# Altium integrated library ST Microcontroller 8-Bit.IntLib: 1326 symbols (part 45 of 45)
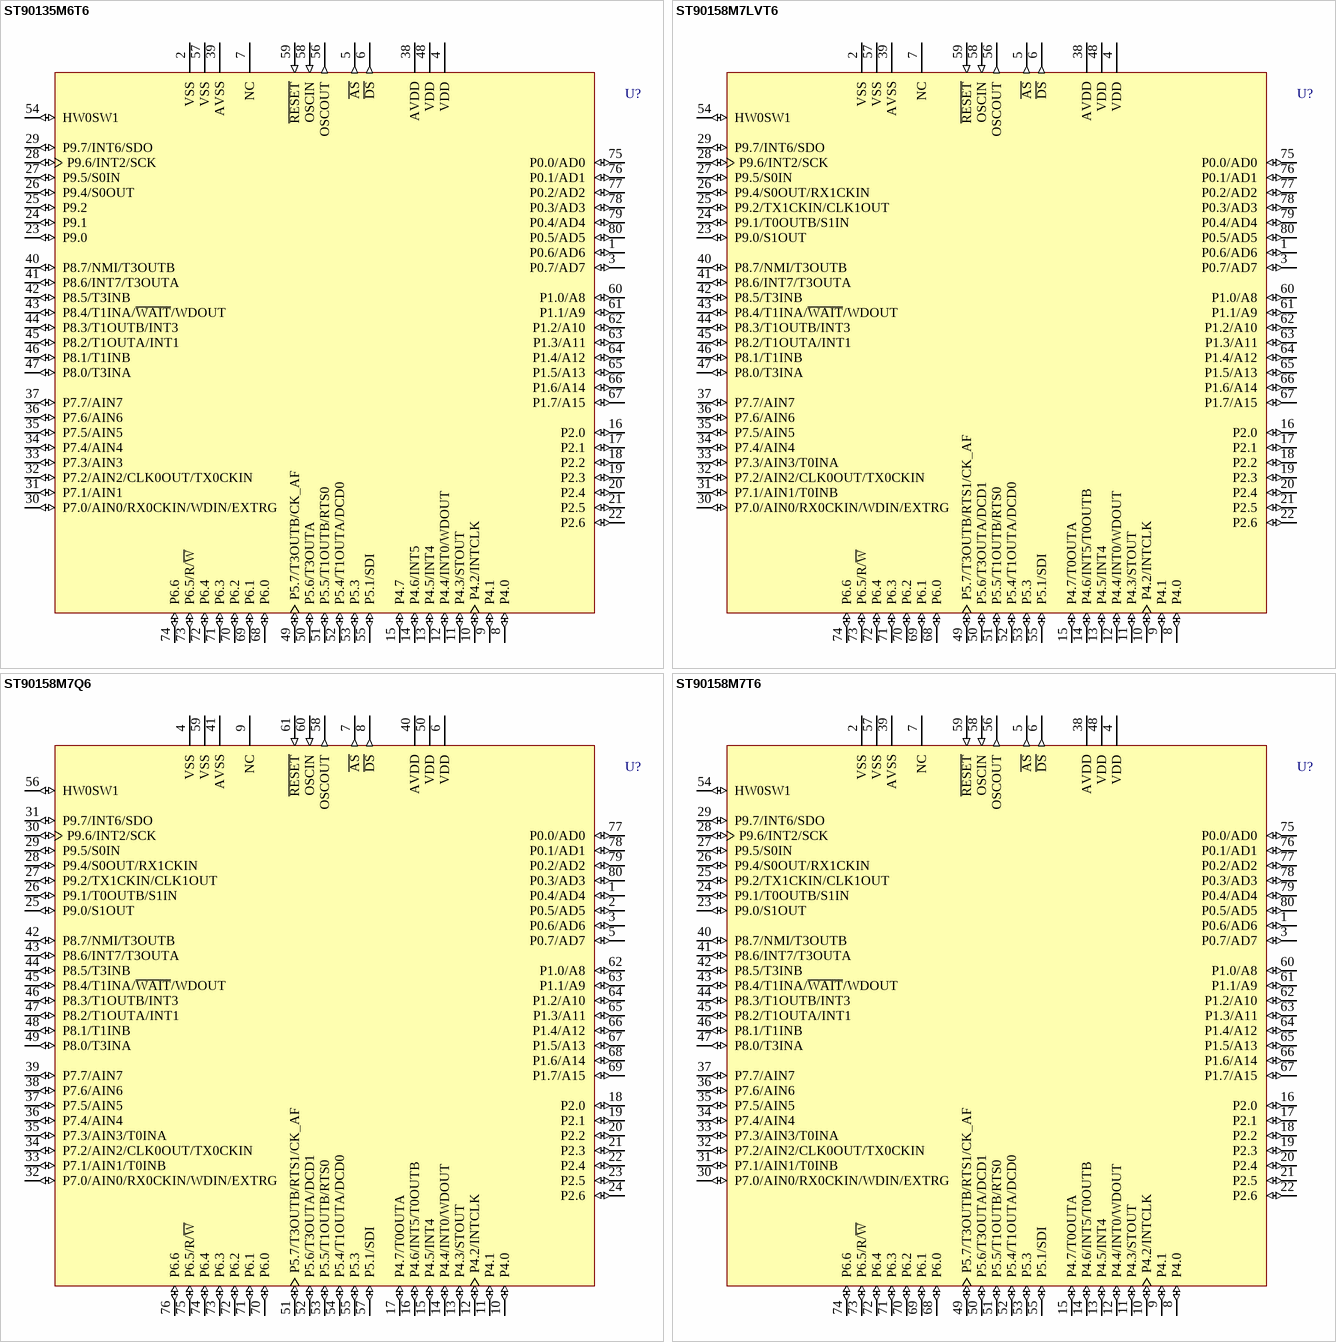
[diagram p211: symbols ST90135M6T6 to ST90158M7T6]

## ST90158M7LVT6
designator U?
8/16-Bit MCU with 48k ROM, 1.5k RAM, ADC, Timers, SPI and Two SCI , 80-Pin TQFP, Low Voltage; Published: 26-May-2004; LatestRevisionDate: 13-Apr-2006; LatestRevisionNote: IPC-7351 Footprint Added.; DatasheetVersion: rev3.3, Jan-2001; PackageVersion: Jan-2001; PackageReference: TQFP80; Publisher: Altium Limited; PackageDescription: 80-Pin Thin Plastic Quad Flat Pack 0.65 mm Pitch; ComponentLink1Description: Manufacturer Link; ComponentLink1URL: http://www.st.com/
footprint TQFP80_N (Thin QFP, 80-Leads, Body 14 x 14mm, Pitch 0.65mm, IPC Medium Density)
footprint TQFP80_L (Thin QFP, 80-Leads, Body 14 x 14mm, Pitch 0.65mm, IPC High Density)
footprint TQFP80_M (Thin QFP, 80-Leads, Body 14 x 14mm, Pitch 0.65mm, IPC Low Density)
3D model ST90158-TQFP80 (80-Pin Thin Plastic Quad Flat Pack 0.65 mm Pitch)
pins: 1 P0.6/AD6 (io), 2 VSS (power), 3 P0.7/AD7 (io), 4 VDD (power), 5 ~{AS} (out), 6 ~{DS} (out), 7 NC, 8 P4.0 (io), 9 P4.1 (io), 10 P4.2/INTCLK (io), 11 P4.3/STOUT (io), 12 P4.4/INT0/WDOUT (io), 13 P4.5/INT4 (io), 14 P4.6/INT5/T0OUTB (io), 15 P4.7/T0OUTA (io), 16 P2.0 (io), 17 P2.1 (io), 18 P2.2 (io), 19 P2.3 (io), 20 P2.4 (io), 21 P2.5 (io), 22 P2.6 (io), 23 P9.0/S1OUT (io), 24 P9.1/T0OUTB/S1IN (io), 25 P9.2/TX1CKIN/CLK1OUT (io), 26 P9.4/S0OUT/RX1CKIN (io), 27 P9.5/S0IN (io), 28 P9.6/INT2/SCK (io), 29 P9.7/INT6/SDO (io), 30 P7.0/AIN0/RX0CKIN/WDIN/EXTRG (io), 31 P7.1/AIN1/T0INB (io), 32 P7.2/AIN2/CLK0OUT/TX0CKIN (io), 33 P7.3/AIN3/T0INA (io), 34 P7.4/AIN4 (io), 35 P7.5/AIN5 (io), 36 P7.6/AIN6 (io), 37 P7.7/AIN7 (io), 38 AVDD (power), 39 AVSS (power), 40 P8.7/NMI/T3OUTB (io), 41 P8.6/INT7/T3OUTA (io), 42 P8.5/T3INB (io), 43 P8.4/T1INA/~{WAIT}/WDOUT (io), 44 P8.3/T1OUTB/INT3 (io), 45 P8.2/T1OUTA/INT1 (io), 46 P8.1/T1INB (io), 47 P8.0/T3INA (io), 48 VDD (power), 49 P5.7/T3OUTB/RTS1/CK_AF (io), 50 P5.6/T3OUTA/DCD1 (io), 51 P5.5/T1OUTB/RTS0 (io), 52 P5.4/T1OUTA/DCD0 (io), 53 P5.3 (io), 54 HW0SW1 (io), 55 P5.1/SDI (io), 56 OSCOUT (out), 57 VSS (power), 58 OSCIN (in), 59 ~{RESET} (in), 60 P1.0/A8 (io), 61 P1.1/A9 (io), 62 P1.2/A10 (io), 63 P1.3/A11 (io), 64 P1.4/A12 (io), 65 P1.5/A13 (io), 66 P1.6/A14 (io), 67 P1.7/A15 (io), 68 P6.0 (io), 69 P6.1 (io), 70 P6.2 (io), 71 P6.3 (io), 72 P6.4 (io), 73 P6.5/R/~{W} (io), 74 P6.6 (io), 75 P0.0/AD0 (io), 76 P0.1/AD1 (io), 77 P0.2/AD2 (io), 78 P0.3/AD3 (io), 79 P0.4/AD4 (io), 80 P0.5/AD5 (io)

## ST90158M7Q6
designator U?
8/16-Bit MCU with 48k ROM, 1.5k RAM, ADC, Timers, SPI and Two SCI , 80-Pin PQFP; Published: 26-May-2004; LatestRevisionDate: 13-Apr-2006; LatestRevisionNote: IPC-7351 Footprint Added.; DatasheetVersion: rev3.3, Jan-2001; PackageVersion: Jul-2001; PackageReference: PQFP80; Publisher: Altium Limited; PackageDescription: 80-Pin Plastic Quad Flat Pack Rectangular 0.8 mm Pitch; ComponentLink1Description: Manufacturer Link; ComponentLink1URL: http://www.st.com/
footprint PQFP80_N (QFP, 80-Leads, Body 20x14mm, Pitch 0.8mm, IPC Medium Density)
footprint PQFP80_L (QFP, 80-Leads, Body 20x14mm, Pitch 0.8mm, IPC High Density)
footprint PQFP80_M (QFP, 80-Leads, Body 20x14mm, Pitch 0.8mm, IPC Low Density)
3D model ST90158-PQFP80 (80-Pin Plastic Quad Flat Pack Rectangular 0.8 mm Pitch)
pins: 1 P0.4/AD4 (io), 2 P0.5/AD5 (io), 3 P0.6/AD6 (io), 4 VSS (power), 5 P0.7/AD7 (io), 6 VDD (power), 7 ~{AS} (out), 8 ~{DS} (out), 9 NC, 10 P4.0 (io), 11 P4.1 (io), 12 P4.2/INTCLK (io), 13 P4.3/STOUT (io), 14 P4.4/INT0/WDOUT (io), 15 P4.5/INT4 (io), 16 P4.6/INT5/T0OUTB (io), 17 P4.7/T0OUTA (io), 18 P2.0 (io), 19 P2.1 (io), 20 P2.2 (io), 21 P2.3 (io), 22 P2.4 (io), 23 P2.5 (io), 24 P2.6 (io), 25 P9.0/S1OUT (io), 26 P9.1/T0OUTB/S1IN (io), 27 P9.2/TX1CKIN/CLK1OUT (io), 28 P9.4/S0OUT/RX1CKIN (io), 29 P9.5/S0IN (io), 30 P9.6/INT2/SCK (io), 31 P9.7/INT6/SDO (io), 32 P7.0/AIN0/RX0CKIN/WDIN/EXTRG (io), 33 P7.1/AIN1/T0INB (io), 34 P7.2/AIN2/CLK0OUT/TX0CKIN (io), 35 P7.3/AIN3/T0INA (io), 36 P7.4/AIN4 (io), 37 P7.5/AIN5 (io), 38 P7.6/AIN6 (io), 39 P7.7/AIN7 (io), 40 AVDD (power), 41 AVSS (power), 42 P8.7/NMI/T3OUTB (io), 43 P8.6/INT7/T3OUTA (io), 44 P8.5/T3INB (io), 45 P8.4/T1INA/~{WAIT}/WDOUT (io), 46 P8.3/T1OUTB/INT3 (io), 47 P8.2/T1OUTA/INT1 (io), 48 P8.1/T1INB (io), 49 P8.0/T3INA (io), 50 VDD (power), 51 P5.7/T3OUTB/RTS1/CK_AF (io), 52 P5.6/T3OUTA/DCD1 (io), 53 P5.5/T1OUTB/RTS0 (io), 54 P5.4/T1OUTA/DCD0 (io), 55 P5.3 (io), 56 HW0SW1 (io), 57 P5.1/SDI (io), 58 OSCOUT (out), 59 VSS (power), 60 OSCIN (in), 61 ~{RESET} (in), 62 P1.0/A8 (io), 63 P1.1/A9 (io), 64 P1.2/A10 (io), 65 P1.3/A11 (io), 66 P1.4/A12 (io), 67 P1.5/A13 (io), 68 P1.6/A14 (io), 69 P1.7/A15 (io), 70 P6.0 (io), 71 P6.1 (io), 72 P6.2 (io), 73 P6.3 (io), 74 P6.4 (io), 75 P6.5/R/~{W} (io), 76 P6.6 (io), 77 P0.0/AD0 (io), 78 P0.1/AD1 (io), 79 P0.2/AD2 (io), 80 P0.3/AD3 (io)

## ST90158M7T6
designator U?
8/16-Bit MCU with 48k ROM, 1.5k RAM, ADC, Timers, SPI and Two SCI , 80-Pin TQFP; Published: 26-May-2004; LatestRevisionDate: 13-Apr-2006; LatestRevisionNote: IPC-7351 Footprint Added.; DatasheetVersion: rev3.3, Jan-2001; PackageVersion: Jan-2001; PackageReference: TQFP80; Publisher: Altium Limited; PackageDescription: 80-Pin Thin Plastic Quad Flat Pack 0.65 mm Pitch; ComponentLink1Description: Manufacturer Link; ComponentLink1URL: http://www.st.com/
footprint TQFP80_N (Thin QFP, 80-Leads, Body 14 x 14mm, Pitch 0.65mm, IPC Medium Density)
footprint TQFP80_L (Thin QFP, 80-Leads, Body 14 x 14mm, Pitch 0.65mm, IPC High Density)
footprint TQFP80_M (Thin QFP, 80-Leads, Body 14 x 14mm, Pitch 0.65mm, IPC Low Density)
3D model ST90158-TQFP80 (80-Pin Thin Plastic Quad Flat Pack 0.65 mm Pitch)
pins: 1 P0.6/AD6 (io), 2 VSS (power), 3 P0.7/AD7 (io), 4 VDD (power), 5 ~{AS} (out), 6 ~{DS} (out), 7 NC, 8 P4.0 (io), 9 P4.1 (io), 10 P4.2/INTCLK (io), 11 P4.3/STOUT (io), 12 P4.4/INT0/WDOUT (io), 13 P4.5/INT4 (io), 14 P4.6/INT5/T0OUTB (io), 15 P4.7/T0OUTA (io), 16 P2.0 (io), 17 P2.1 (io), 18 P2.2 (io), 19 P2.3 (io), 20 P2.4 (io), 21 P2.5 (io), 22 P2.6 (io), 23 P9.0/S1OUT (io), 24 P9.1/T0OUTB/S1IN (io), 25 P9.2/TX1CKIN/CLK1OUT (io), 26 P9.4/S0OUT/RX1CKIN (io), 27 P9.5/S0IN (io), 28 P9.6/INT2/SCK (io), 29 P9.7/INT6/SDO (io), 30 P7.0/AIN0/RX0CKIN/WDIN/EXTRG (io), 31 P7.1/AIN1/T0INB (io), 32 P7.2/AIN2/CLK0OUT/TX0CKIN (io), 33 P7.3/AIN3/T0INA (io), 34 P7.4/AIN4 (io), 35 P7.5/AIN5 (io), 36 P7.6/AIN6 (io), 37 P7.7/AIN7 (io), 38 AVDD (power), 39 AVSS (power), 40 P8.7/NMI/T3OUTB (io), 41 P8.6/INT7/T3OUTA (io), 42 P8.5/T3INB (io), 43 P8.4/T1INA/~{WAIT}/WDOUT (io), 44 P8.3/T1OUTB/INT3 (io), 45 P8.2/T1OUTA/INT1 (io), 46 P8.1/T1INB (io), 47 P8.0/T3INA (io), 48 VDD (power), 49 P5.7/T3OUTB/RTS1/CK_AF (io), 50 P5.6/T3OUTA/DCD1 (io), 51 P5.5/T1OUTB/RTS0 (io), 52 P5.4/T1OUTA/DCD0 (io), 53 P5.3 (io), 54 HW0SW1 (io), 55 P5.1/SDI (io), 56 OSCOUT (out), 57 VSS (power), 58 OSCIN (in), 59 ~{RESET} (in), 60 P1.0/A8 (io), 61 P1.1/A9 (io), 62 P1.2/A10 (io), 63 P1.3/A11 (io), 64 P1.4/A12 (io), 65 P1.5/A13 (io), 66 P1.6/A14 (io), 67 P1.7/A15 (io), 68 P6.0 (io), 69 P6.1 (io), 70 P6.2 (io), 71 P6.3 (io), 72 P6.4 (io), 73 P6.5/R/~{W} (io), 74 P6.6 (io), 75 P0.0/AD0 (io), 76 P0.1/AD1 (io), 77 P0.2/AD2 (io), 78 P0.3/AD3 (io), 79 P0.4/AD4 (io), 80 P0.5/AD5 (io)

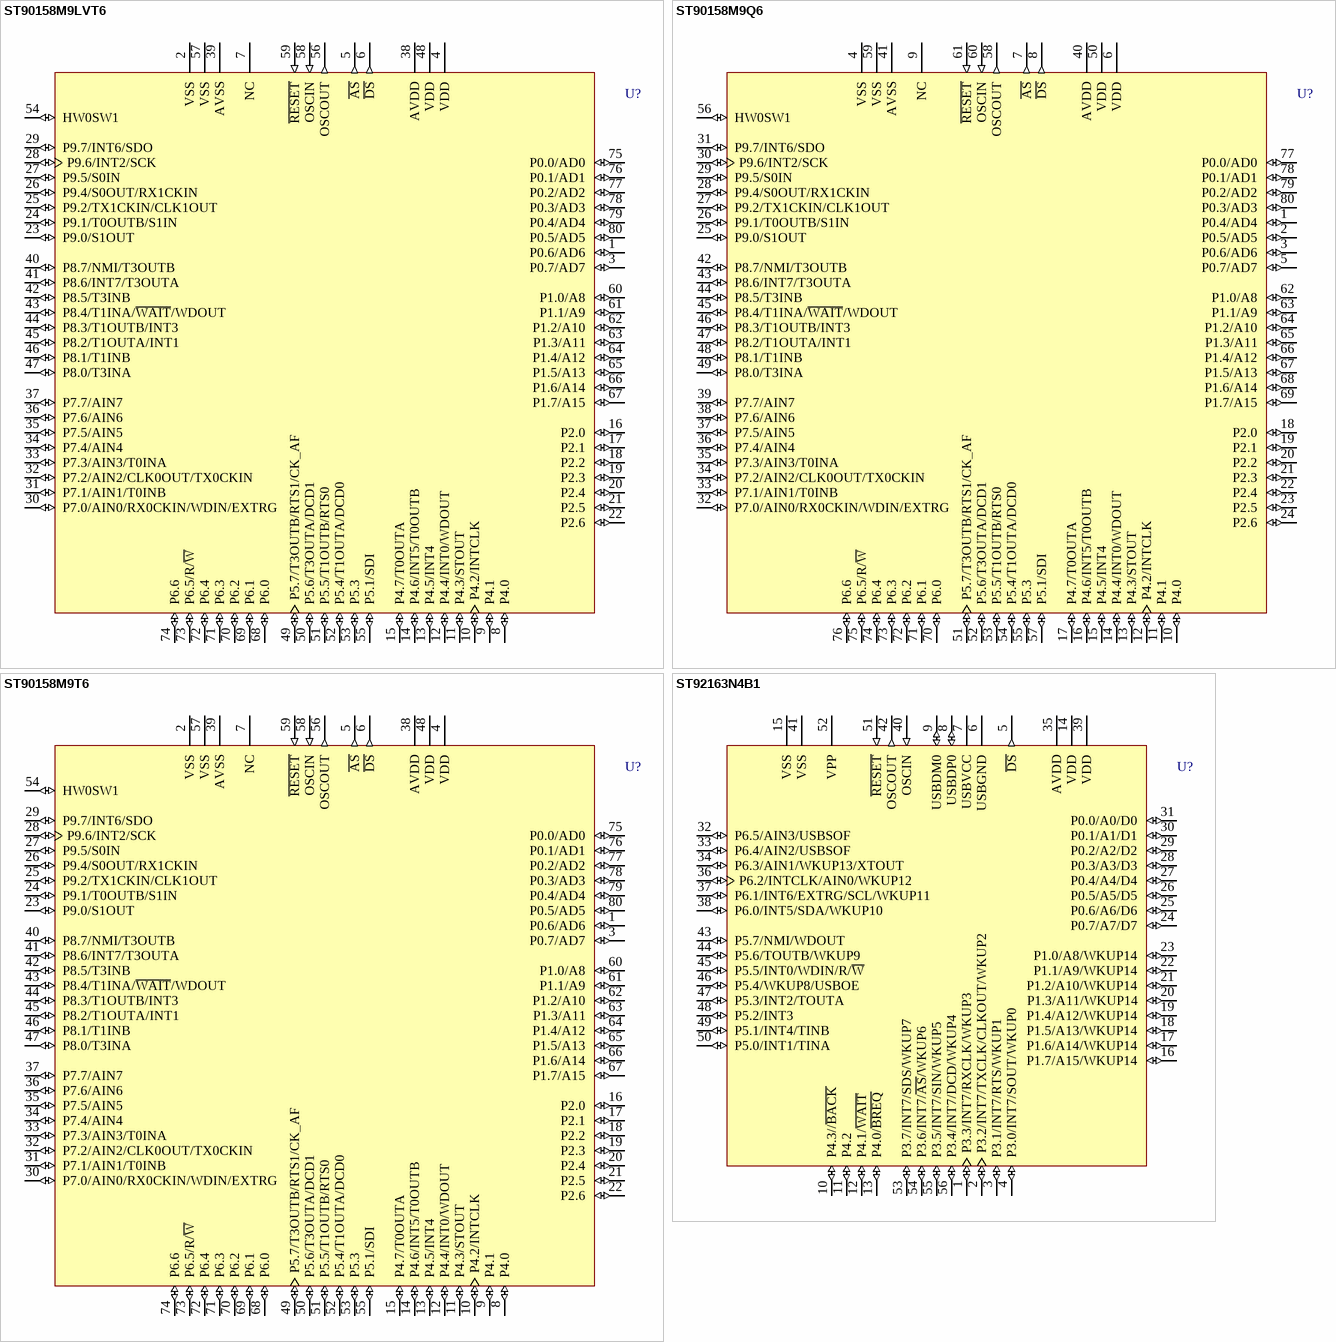
[diagram p165: symbols ST90158M9LVT6 to ST92163N4B1]

## ST90158M9LVT6
designator U?
8/16-Bit MCU with 64k ROM, 2k RAM, ADC, Timers, SPI and Two SCI , 80-Pin TQFP, Low Voltage; Published: 26-May-2004; LatestRevisionDate: 13-Apr-2006; LatestRevisionNote: IPC-7351 Footprint Added.; DatasheetVersion: rev3.3, Jan-2001; PackageVersion: Jan-2001; PackageReference: TQFP80; Publisher: Altium Limited; PackageDescription: 80-Pin Thin Plastic Quad Flat Pack 0.65 mm Pitch; ComponentLink1Description: Manufacturer Link; ComponentLink1URL: http://www.st.com/
footprint TQFP80_N (Thin QFP, 80-Leads, Body 14 x 14mm, Pitch 0.65mm, IPC Medium Density)
footprint TQFP80_L (Thin QFP, 80-Leads, Body 14 x 14mm, Pitch 0.65mm, IPC High Density)
footprint TQFP80_M (Thin QFP, 80-Leads, Body 14 x 14mm, Pitch 0.65mm, IPC Low Density)
3D model ST90158-TQFP80 (80-Pin Thin Plastic Quad Flat Pack 0.65 mm Pitch)
pins: 1 P0.6/AD6 (io), 2 VSS (power), 3 P0.7/AD7 (io), 4 VDD (power), 5 ~{AS} (out), 6 ~{DS} (out), 7 NC, 8 P4.0 (io), 9 P4.1 (io), 10 P4.2/INTCLK (io), 11 P4.3/STOUT (io), 12 P4.4/INT0/WDOUT (io), 13 P4.5/INT4 (io), 14 P4.6/INT5/T0OUTB (io), 15 P4.7/T0OUTA (io), 16 P2.0 (io), 17 P2.1 (io), 18 P2.2 (io), 19 P2.3 (io), 20 P2.4 (io), 21 P2.5 (io), 22 P2.6 (io), 23 P9.0/S1OUT (io), 24 P9.1/T0OUTB/S1IN (io), 25 P9.2/TX1CKIN/CLK1OUT (io), 26 P9.4/S0OUT/RX1CKIN (io), 27 P9.5/S0IN (io), 28 P9.6/INT2/SCK (io), 29 P9.7/INT6/SDO (io), 30 P7.0/AIN0/RX0CKIN/WDIN/EXTRG (io), 31 P7.1/AIN1/T0INB (io), 32 P7.2/AIN2/CLK0OUT/TX0CKIN (io), 33 P7.3/AIN3/T0INA (io), 34 P7.4/AIN4 (io), 35 P7.5/AIN5 (io), 36 P7.6/AIN6 (io), 37 P7.7/AIN7 (io), 38 AVDD (power), 39 AVSS (power), 40 P8.7/NMI/T3OUTB (io), 41 P8.6/INT7/T3OUTA (io), 42 P8.5/T3INB (io), 43 P8.4/T1INA/~{WAIT}/WDOUT (io), 44 P8.3/T1OUTB/INT3 (io), 45 P8.2/T1OUTA/INT1 (io), 46 P8.1/T1INB (io), 47 P8.0/T3INA (io), 48 VDD (power), 49 P5.7/T3OUTB/RTS1/CK_AF (io), 50 P5.6/T3OUTA/DCD1 (io), 51 P5.5/T1OUTB/RTS0 (io), 52 P5.4/T1OUTA/DCD0 (io), 53 P5.3 (io), 54 HW0SW1 (io), 55 P5.1/SDI (io), 56 OSCOUT (out), 57 VSS (power), 58 OSCIN (in), 59 ~{RESET} (in), 60 P1.0/A8 (io), 61 P1.1/A9 (io), 62 P1.2/A10 (io), 63 P1.3/A11 (io), 64 P1.4/A12 (io), 65 P1.5/A13 (io), 66 P1.6/A14 (io), 67 P1.7/A15 (io), 68 P6.0 (io), 69 P6.1 (io), 70 P6.2 (io), 71 P6.3 (io), 72 P6.4 (io), 73 P6.5/R/~{W} (io), 74 P6.6 (io), 75 P0.0/AD0 (io), 76 P0.1/AD1 (io), 77 P0.2/AD2 (io), 78 P0.3/AD3 (io), 79 P0.4/AD4 (io), 80 P0.5/AD5 (io)

## ST90158M9Q6
designator U?
8/16-Bit MCU with 64k ROM, 2k RAM, ADC, Timers, SPI and Two SCI , 80-Pin PQFP; Published: 26-May-2004; LatestRevisionDate: 13-Apr-2006; LatestRevisionNote: IPC-7351 Footprint Added.; DatasheetVersion: rev3.3, Jan-2001; PackageVersion: Jul-2001; PackageReference: PQFP80; Publisher: Altium Limited; PackageDescription: 80-Pin Plastic Quad Flat Pack Rectangular 0.8 mm Pitch; ComponentLink1Description: Manufacturer Link; ComponentLink1URL: http://www.st.com/
footprint PQFP80_N (QFP, 80-Leads, Body 20x14mm, Pitch 0.8mm, IPC Medium Density)
footprint PQFP80_L (QFP, 80-Leads, Body 20x14mm, Pitch 0.8mm, IPC High Density)
footprint PQFP80_M (QFP, 80-Leads, Body 20x14mm, Pitch 0.8mm, IPC Low Density)
3D model ST90158-PQFP80 (80-Pin Plastic Quad Flat Pack Rectangular 0.8 mm Pitch)
pins: 1 P0.4/AD4 (io), 2 P0.5/AD5 (io), 3 P0.6/AD6 (io), 4 VSS (power), 5 P0.7/AD7 (io), 6 VDD (power), 7 ~{AS} (out), 8 ~{DS} (out), 9 NC, 10 P4.0 (io), 11 P4.1 (io), 12 P4.2/INTCLK (io), 13 P4.3/STOUT (io), 14 P4.4/INT0/WDOUT (io), 15 P4.5/INT4 (io), 16 P4.6/INT5/T0OUTB (io), 17 P4.7/T0OUTA (io), 18 P2.0 (io), 19 P2.1 (io), 20 P2.2 (io), 21 P2.3 (io), 22 P2.4 (io), 23 P2.5 (io), 24 P2.6 (io), 25 P9.0/S1OUT (io), 26 P9.1/T0OUTB/S1IN (io), 27 P9.2/TX1CKIN/CLK1OUT (io), 28 P9.4/S0OUT/RX1CKIN (io), 29 P9.5/S0IN (io), 30 P9.6/INT2/SCK (io), 31 P9.7/INT6/SDO (io), 32 P7.0/AIN0/RX0CKIN/WDIN/EXTRG (io), 33 P7.1/AIN1/T0INB (io), 34 P7.2/AIN2/CLK0OUT/TX0CKIN (io), 35 P7.3/AIN3/T0INA (io), 36 P7.4/AIN4 (io), 37 P7.5/AIN5 (io), 38 P7.6/AIN6 (io), 39 P7.7/AIN7 (io), 40 AVDD (power), 41 AVSS (power), 42 P8.7/NMI/T3OUTB (io), 43 P8.6/INT7/T3OUTA (io), 44 P8.5/T3INB (io), 45 P8.4/T1INA/~{WAIT}/WDOUT (io), 46 P8.3/T1OUTB/INT3 (io), 47 P8.2/T1OUTA/INT1 (io), 48 P8.1/T1INB (io), 49 P8.0/T3INA (io), 50 VDD (power), 51 P5.7/T3OUTB/RTS1/CK_AF (io), 52 P5.6/T3OUTA/DCD1 (io), 53 P5.5/T1OUTB/RTS0 (io), 54 P5.4/T1OUTA/DCD0 (io), 55 P5.3 (io), 56 HW0SW1 (io), 57 P5.1/SDI (io), 58 OSCOUT (out), 59 VSS (power), 60 OSCIN (in), 61 ~{RESET} (in), 62 P1.0/A8 (io), 63 P1.1/A9 (io), 64 P1.2/A10 (io), 65 P1.3/A11 (io), 66 P1.4/A12 (io), 67 P1.5/A13 (io), 68 P1.6/A14 (io), 69 P1.7/A15 (io), 70 P6.0 (io), 71 P6.1 (io), 72 P6.2 (io), 73 P6.3 (io), 74 P6.4 (io), 75 P6.5/R/~{W} (io), 76 P6.6 (io), 77 P0.0/AD0 (io), 78 P0.1/AD1 (io), 79 P0.2/AD2 (io), 80 P0.3/AD3 (io)

## ST90158M9T6
designator U?
8/16-Bit MCU with 64k ROM, 2k RAM, ADC, Timers, SPI and Two SCI , 80-Pin TQFP; Published: 26-May-2004; LatestRevisionDate: 13-Apr-2006; LatestRevisionNote: IPC-7351 Footprint Added.; DatasheetVersion: rev3.3, Jan-2001; PackageVersion: Jan-2001; PackageReference: TQFP80; Publisher: Altium Limited; PackageDescription: 80-Pin Thin Plastic Quad Flat Pack 0.65 mm Pitch; ComponentLink1Description: Manufacturer Link; ComponentLink1URL: http://www.st.com/
footprint TQFP80_N (Thin QFP, 80-Leads, Body 14 x 14mm, Pitch 0.65mm, IPC Medium Density)
footprint TQFP80_L (Thin QFP, 80-Leads, Body 14 x 14mm, Pitch 0.65mm, IPC High Density)
footprint TQFP80_M (Thin QFP, 80-Leads, Body 14 x 14mm, Pitch 0.65mm, IPC Low Density)
3D model ST90158-TQFP80 (80-Pin Thin Plastic Quad Flat Pack 0.65 mm Pitch)
pins: 1 P0.6/AD6 (io), 2 VSS (power), 3 P0.7/AD7 (io), 4 VDD (power), 5 ~{AS} (out), 6 ~{DS} (out), 7 NC, 8 P4.0 (io), 9 P4.1 (io), 10 P4.2/INTCLK (io), 11 P4.3/STOUT (io), 12 P4.4/INT0/WDOUT (io), 13 P4.5/INT4 (io), 14 P4.6/INT5/T0OUTB (io), 15 P4.7/T0OUTA (io), 16 P2.0 (io), 17 P2.1 (io), 18 P2.2 (io), 19 P2.3 (io), 20 P2.4 (io), 21 P2.5 (io), 22 P2.6 (io), 23 P9.0/S1OUT (io), 24 P9.1/T0OUTB/S1IN (io), 25 P9.2/TX1CKIN/CLK1OUT (io), 26 P9.4/S0OUT/RX1CKIN (io), 27 P9.5/S0IN (io), 28 P9.6/INT2/SCK (io), 29 P9.7/INT6/SDO (io), 30 P7.0/AIN0/RX0CKIN/WDIN/EXTRG (io), 31 P7.1/AIN1/T0INB (io), 32 P7.2/AIN2/CLK0OUT/TX0CKIN (io), 33 P7.3/AIN3/T0INA (io), 34 P7.4/AIN4 (io), 35 P7.5/AIN5 (io), 36 P7.6/AIN6 (io), 37 P7.7/AIN7 (io), 38 AVDD (power), 39 AVSS (power), 40 P8.7/NMI/T3OUTB (io), 41 P8.6/INT7/T3OUTA (io), 42 P8.5/T3INB (io), 43 P8.4/T1INA/~{WAIT}/WDOUT (io), 44 P8.3/T1OUTB/INT3 (io), 45 P8.2/T1OUTA/INT1 (io), 46 P8.1/T1INB (io), 47 P8.0/T3INA (io), 48 VDD (power), 49 P5.7/T3OUTB/RTS1/CK_AF (io), 50 P5.6/T3OUTA/DCD1 (io), 51 P5.5/T1OUTB/RTS0 (io), 52 P5.4/T1OUTA/DCD0 (io), 53 P5.3 (io), 54 HW0SW1 (io), 55 P5.1/SDI (io), 56 OSCOUT (out), 57 VSS (power), 58 OSCIN (in), 59 ~{RESET} (in), 60 P1.0/A8 (io), 61 P1.1/A9 (io), 62 P1.2/A10 (io), 63 P1.3/A11 (io), 64 P1.4/A12 (io), 65 P1.5/A13 (io), 66 P1.6/A14 (io), 67 P1.7/A15 (io), 68 P6.0 (io), 69 P6.1 (io), 70 P6.2 (io), 71 P6.3 (io), 72 P6.4 (io), 73 P6.5/R/~{W} (io), 74 P6.6 (io), 75 P0.0/AD0 (io), 76 P0.1/AD1 (io), 77 P0.2/AD2 (io), 78 P0.3/AD3 (io), 79 P0.4/AD4 (io), 80 P0.5/AD5 (io)

## ST92163N4B1
designator U?
8/16-Bit MCU with 20k ROM, 2k RAM, Full-Speed USB with 16 Endpoints, I²C, SCI and MFT, 56-Pin SDIP, Normal Mode; Published: 26-May-2004; LatestRevisionDate: 06-Jun-2005; LatestRevisionNote: Stylized 3D Model Added.; DatasheetVersion: rev2.4, Jan-2002; PackageVersion: Jan-2002; PackageReference: PSDIP56; Publisher: Altium Limited; PackageDescription: DIP, Plastic Shrink; 56 Leads; Row Spacing 15.24 mm; Pitch 1.78 mm; ComponentLink1Description: Manufacturer Link; ComponentLink1URL: http://www.st.com/; ComponentLink2Description: Datasheet; ComponentLink2URL: http://www.st.com/stonline/products/literature/ds/5521/st92163n4.pdf
footprint PSDIP56 (DIP, Plastic Shrink; 56 Leads; Row Spacing 15.24 mm; Pitch 1.78 mm)
3D model PSDIP56 (DIP, Plastic Shrink; 56 Leads; Row Spacing 15.24 mm; Pitch 1.78 mm)
pins: 1 P3.3/INT7/RXCLK/WKUP3 (io), 2 P3.2/INT7/TXCLK/CLKOUT/WKUP2 (io), 3 P3.1/INT7/RTS/WKUP1 (io), 4 P3.0/INT7/SOUT/WKUP0 (io), 5 ~{DS} (out), 6 USBGND (power), 7 USBVCC (power), 8 USBDP0 (io), 9 USBDM0 (io), 10 P4.3//~{BACK} (io), 11 P4.2 (io), 12 P4.1/~{WAIT} (io), 13 P4.0/~{BREQ} (io), 14 VDD (power), 15 VSS (power), 16 P1.7/A15/WKUP14 (io), 17 P1.6/A14/WKUP14 (io), 18 P1.5/A13/WKUP14 (io), 19 P1.4/A12/WKUP14 (io), 20 P1.3/A11/WKUP14 (io), 21 P1.2/A10/WKUP14 (io), 22 P1.1/A9/WKUP14 (io), 23 P1.0/A8/WKUP14 (io), 24 P0.7/A7/D7 (io), 25 P0.6/A6/D6 (io), 26 P0.5/A5/D5 (io), 27 P0.4/A4/D4 (io), 28 P0.3/A3/D3 (io), 29 P0.2/A2/D2 (io), 30 P0.1/A1/D1 (io), 31 P0.0/A0/D0 (io), 32 P6.5/AIN3/USBSOF (io), 33 P6.4/AIN2/USBSOF (io), 34 P6.3/AIN1/WKUP13/XTOUT (io), 35 AVDD (power), 36 P6.2/INTCLK/AIN0/WKUP12 (io), 37 P6.1/INT6/EXTRG/SCL/WKUP11 (io), 38 P6.0/INT5/SDA/WKUP10 (io), 39 VDD (power), 40 OSCIN (in), 41 VSS (power), 42 OSCOUT (out), 43 P5.7/NMI/WDOUT (io), 44 P5.6/TOUTB/WKUP9 (io), 45 P5.5/INT0/WDIN/R/~{W} (io), 46 P5.4/WKUP8/USBOE (io), 47 P5.3/INT2/TOUTA (io), 48 P5.2/INT3 (io), 49 P5.1/INT4/TINB (io), 50 P5.0/INT1/TINA (io), 51 ~{RESET} (in), 52 VPP (power), 53 P3.7/INT7/SDS/WKUP7 (io), 54 P3.6/INT7/~{AS}/WKUP6 (io), 55 P3.5/INT7/SIN/WKUP5 (io), 56 P3.4/INT7/DCD/WKUP4 (io)

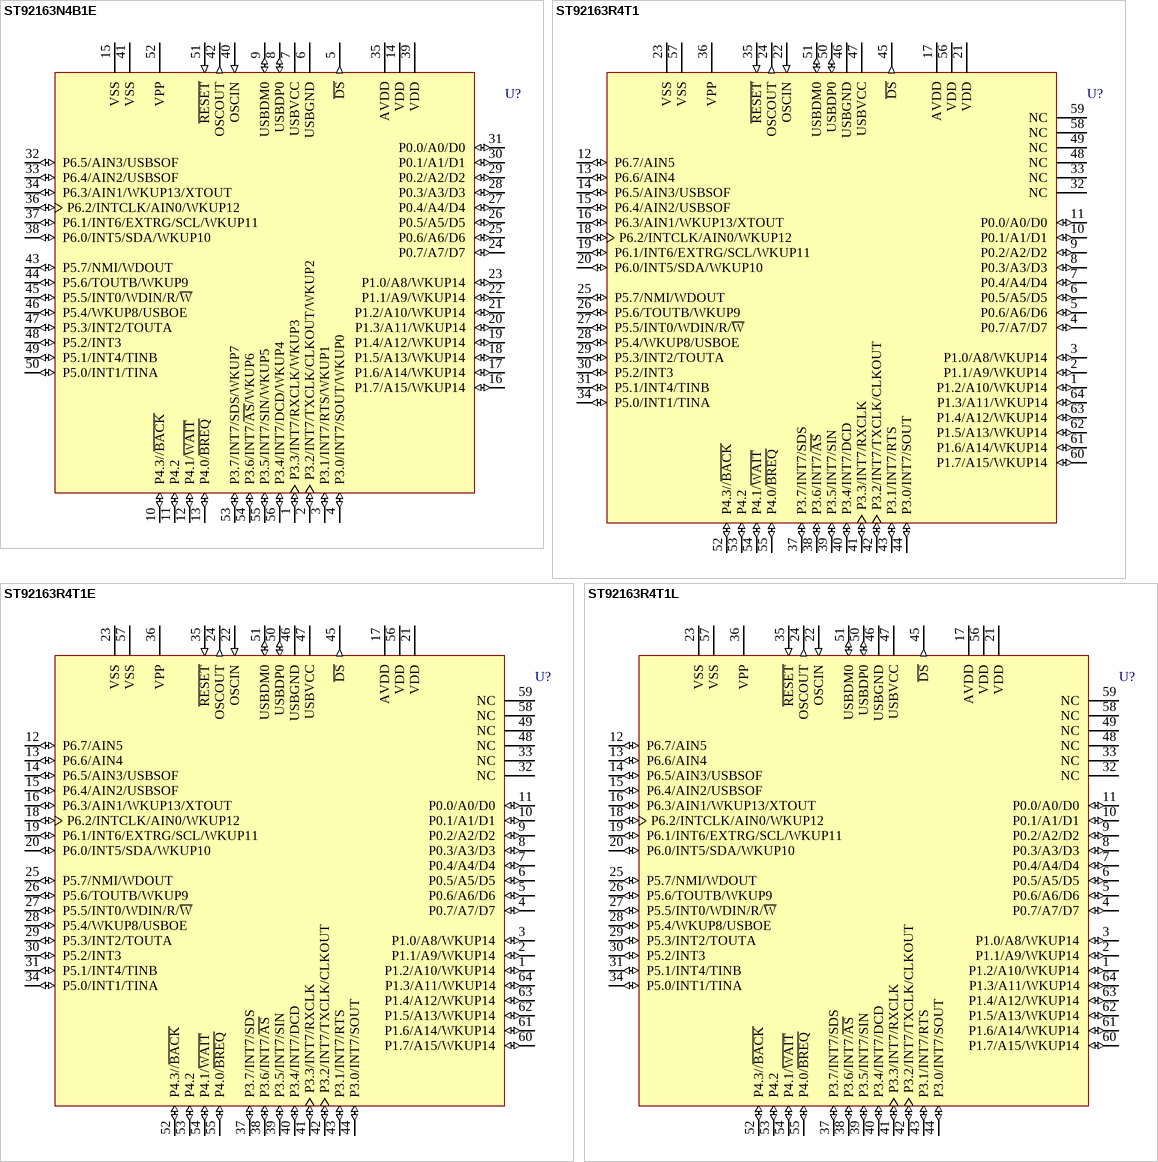
[diagram p166: symbols ST92163N4B1E to ST92163R4T1L]

## ST92163N4B1E
designator U?
8/16-Bit MCU with 20k ROM, 2k RAM, Full-Speed USB with 16 Endpoints, I²C, SCI and MFT, 56-Pin SDIP, Normal Mode; Published: 26-May-2004; LatestRevisionDate: 06-Jun-2005; LatestRevisionNote: Stylized 3D Model Added.; DatasheetVersion: rev2.4, Jan-2002; PackageVersion: Jan-2002; PackageReference: PSDIP56; Publisher: Altium Limited; PackageDescription: DIP, Plastic Shrink; 56 Leads; Row Spacing 15.24 mm; Pitch 1.78 mm; ComponentLink1Description: Manufacturer Link; ComponentLink1URL: http://www.st.com/; ComponentLink2Description: Datasheet; ComponentLink2URL: http://www.st.com/stonline/products/literature/ds/5521/st92163n4.pdf
footprint PSDIP56 (DIP, Plastic Shrink; 56 Leads; Row Spacing 15.24 mm; Pitch 1.78 mm)
3D model PSDIP56 (DIP, Plastic Shrink; 56 Leads; Row Spacing 15.24 mm; Pitch 1.78 mm)
pins: 1 P3.3/INT7/RXCLK/WKUP3 (io), 2 P3.2/INT7/TXCLK/CLKOUT/WKUP2 (io), 3 P3.1/INT7/RTS/WKUP1 (io), 4 P3.0/INT7/SOUT/WKUP0 (io), 5 ~{DS} (out), 6 USBGND (power), 7 USBVCC (power), 8 USBDP0 (io), 9 USBDM0 (io), 10 P4.3//~{BACK} (io), 11 P4.2 (io), 12 P4.1/~{WAIT} (io), 13 P4.0/~{BREQ} (io), 14 VDD (power), 15 VSS (power), 16 P1.7/A15/WKUP14 (io), 17 P1.6/A14/WKUP14 (io), 18 P1.5/A13/WKUP14 (io), 19 P1.4/A12/WKUP14 (io), 20 P1.3/A11/WKUP14 (io), 21 P1.2/A10/WKUP14 (io), 22 P1.1/A9/WKUP14 (io), 23 P1.0/A8/WKUP14 (io), 24 P0.7/A7/D7 (io), 25 P0.6/A6/D6 (io), 26 P0.5/A5/D5 (io), 27 P0.4/A4/D4 (io), 28 P0.3/A3/D3 (io), 29 P0.2/A2/D2 (io), 30 P0.1/A1/D1 (io), 31 P0.0/A0/D0 (io), 32 P6.5/AIN3/USBSOF (io), 33 P6.4/AIN2/USBSOF (io), 34 P6.3/AIN1/WKUP13/XTOUT (io), 35 AVDD (power), 36 P6.2/INTCLK/AIN0/WKUP12 (io), 37 P6.1/INT6/EXTRG/SCL/WKUP11 (io), 38 P6.0/INT5/SDA/WKUP10 (io), 39 VDD (power), 40 OSCIN (in), 41 VSS (power), 42 OSCOUT (out), 43 P5.7/NMI/WDOUT (io), 44 P5.6/TOUTB/WKUP9 (io), 45 P5.5/INT0/WDIN/R/~{W} (io), 46 P5.4/WKUP8/USBOE (io), 47 P5.3/INT2/TOUTA (io), 48 P5.2/INT3 (io), 49 P5.1/INT4/TINB (io), 50 P5.0/INT1/TINA (io), 51 ~{RESET} (in), 52 VPP (power), 53 P3.7/INT7/SDS/WKUP7 (io), 54 P3.6/INT7/~{AS}/WKUP6 (io), 55 P3.5/INT7/SIN/WKUP5 (io), 56 P3.4/INT7/DCD/WKUP4 (io)

## ST92163R4T1
designator U?
8/16-Bit MCU with 20k ROM, 2k RAM, Full-Speed USB with 16 Endpoints, I²C, SCI and MFT, 64-Pin TQFP, Normal Mode; Published: 26-May-2004; LatestRevisionDate: 13-Apr-2006; LatestRevisionNote: IPC-7351 Footprint Added.; DatasheetVersion: rev2.4, Jan-2002; PackageVersion: rev2.4, Jan-2002; PackageReference: TQFP64-0.8; Publisher: Altium Limited; PackageDescription: 64-Pin Thin Quad Flat Pack 0.8 mm Pitch; ComponentLink1Description: Manufacturer Link; ComponentLink1URL: http://www.st.com/; ComponentLink2Description: Datasheet; ComponentLink2URL: http://www.st.com/stonline/products/literature/ds/5521/st92163r4.pdf
footprint TQFP64-0.8_N (Thin QFP, 64-Leads, Body 14x14mm, Pitch 0.8mm, IPC Medium Density)
footprint TQFP64-0.8_L (Thin QFP, 64-Leads, Body 14x14mm, Pitch 0.8mm, IPC High Density)
footprint TQFP64-0.8_M (Thin QFP, 64-Leads, Body 14x14mm, Pitch 0.8mm, IPC Low Density)
3D model ST92163-TQFP64-0_8 (64-Pin Thin Quad Flat Pack 0.8 mm Pitch)
pins: 1 P1.2/A10/WKUP14 (io), 2 P1.1/A9/WKUP14 (io), 3 P1.0/A8/WKUP14 (io), 4 P0.7/A7/D7 (io), 5 P0.6/A6/D6 (io), 6 P0.5/A5/D5 (io), 7 P0.4/A4/D4 (io), 8 P0.3/A3/D3 (io), 9 P0.2/A2/D2 (io), 10 P0.1/A1/D1 (io), 11 P0.0/A0/D0 (io), 12 P6.7/AIN5 (io), 13 P6.6/AIN4 (io), 14 P6.5/AIN3/USBSOF (io), 15 P6.4/AIN2/USBSOF (io), 16 P6.3/AIN1/WKUP13/XTOUT (io), 17 AVDD (power), 18 P6.2/INTCLK/AIN0/WKUP12 (io), 19 P6.1/INT6/EXTRG/SCL/WKUP11 (io), 20 P6.0/INT5/SDA/WKUP10 (io), 21 VDD (power), 22 OSCIN (in), 23 VSS (power), 24 OSCOUT (out), 25 P5.7/NMI/WDOUT (io), 26 P5.6/TOUTB/WKUP9 (io), 27 P5.5/INT0/WDIN/R/~{W} (io), 28 P5.4/WKUP8/USBOE (io), 29 P5.3/INT2/TOUTA (io), 30 P5.2/INT3 (io), 31 P5.1/INT4/TINB (io), 32 NC, 33 NC, 34 P5.0/INT1/TINA (io), 35 ~{RESET} (in), 36 VPP (power), 37 P3.7/INT7/SDS (io), 38 P3.6/INT7/~{AS} (io), 39 P3.5/INT7/SIN (io), 40 P3.4/INT7/DCD (io), 41 P3.3/INT7/RXCLK (io), 42 P3.2/INT7/TXCLK/CLKOUT (io), 43 P3.1/INT7/RTS (io), 44 P3.0/INT7/SOUT (io), 45 ~{DS} (out), 46 USBGND (power), 47 USBVCC (power), 48 NC, 49 NC, 50 USBDP0 (io), 51 USBDM0 (io), 52 P4.3//~{BACK} (io), 53 P4.2 (io), 54 P4.1/~{WAIT} (io), 55 P4.0/~{BREQ} (io), 56 VDD (power), 57 VSS (power), 58 NC, 59 NC, 60 P1.7/A15/WKUP14 (io), 61 P1.6/A14/WKUP14 (io), 62 P1.5/A13/WKUP14 (io), 63 P1.4/A12/WKUP14 (io), 64 P1.3/A11/WKUP14 (io)

## ST92163R4T1E
designator U?
8/16-Bit MCU with 20k ROM, 2k RAM, Full-Speed USB with 16 Endpoints, I²C, SCI and MFT, 64-Pin TQFP, Normal Mode; Published: 26-May-2004; LatestRevisionDate: 13-Apr-2006; LatestRevisionNote: IPC-7351 Footprint Added.; DatasheetVersion: rev2.4, Jan-2002; PackageVersion: rev2.4, Jan-2002; PackageReference: TQFP64-0.8; Publisher: Altium Limited; PackageDescription: 64-Pin Thin Quad Flat Pack 0.8 mm Pitch; ComponentLink1Description: Manufacturer Link; ComponentLink1URL: http://www.st.com/; ComponentLink2Description: Datasheet; ComponentLink2URL: http://www.st.com/stonline/products/literature/ds/5521/st92163r4.pdf
footprint TQFP64-0.8_N (Thin QFP, 64-Leads, Body 14x14mm, Pitch 0.8mm, IPC Medium Density)
footprint TQFP64-0.8_L (Thin QFP, 64-Leads, Body 14x14mm, Pitch 0.8mm, IPC High Density)
footprint TQFP64-0.8_M (Thin QFP, 64-Leads, Body 14x14mm, Pitch 0.8mm, IPC Low Density)
3D model ST92163-TQFP64-0_8 (64-Pin Thin Quad Flat Pack 0.8 mm Pitch)
pins: 1 P1.2/A10/WKUP14 (io), 2 P1.1/A9/WKUP14 (io), 3 P1.0/A8/WKUP14 (io), 4 P0.7/A7/D7 (io), 5 P0.6/A6/D6 (io), 6 P0.5/A5/D5 (io), 7 P0.4/A4/D4 (io), 8 P0.3/A3/D3 (io), 9 P0.2/A2/D2 (io), 10 P0.1/A1/D1 (io), 11 P0.0/A0/D0 (io), 12 P6.7/AIN5 (io), 13 P6.6/AIN4 (io), 14 P6.5/AIN3/USBSOF (io), 15 P6.4/AIN2/USBSOF (io), 16 P6.3/AIN1/WKUP13/XTOUT (io), 17 AVDD (power), 18 P6.2/INTCLK/AIN0/WKUP12 (io), 19 P6.1/INT6/EXTRG/SCL/WKUP11 (io), 20 P6.0/INT5/SDA/WKUP10 (io), 21 VDD (power), 22 OSCIN (in), 23 VSS (power), 24 OSCOUT (out), 25 P5.7/NMI/WDOUT (io), 26 P5.6/TOUTB/WKUP9 (io), 27 P5.5/INT0/WDIN/R/~{W} (io), 28 P5.4/WKUP8/USBOE (io), 29 P5.3/INT2/TOUTA (io), 30 P5.2/INT3 (io), 31 P5.1/INT4/TINB (io), 32 NC, 33 NC, 34 P5.0/INT1/TINA (io), 35 ~{RESET} (in), 36 VPP (power), 37 P3.7/INT7/SDS (io), 38 P3.6/INT7/~{AS} (io), 39 P3.5/INT7/SIN (io), 40 P3.4/INT7/DCD (io), 41 P3.3/INT7/RXCLK (io), 42 P3.2/INT7/TXCLK/CLKOUT (io), 43 P3.1/INT7/RTS (io), 44 P3.0/INT7/SOUT (io), 45 ~{DS} (out), 46 USBGND (power), 47 USBVCC (power), 48 NC, 49 NC, 50 USBDP0 (io), 51 USBDM0 (io), 52 P4.3//~{BACK} (io), 53 P4.2 (io), 54 P4.1/~{WAIT} (io), 55 P4.0/~{BREQ} (io), 56 VDD (power), 57 VSS (power), 58 NC, 59 NC, 60 P1.7/A15/WKUP14 (io), 61 P1.6/A14/WKUP14 (io), 62 P1.5/A13/WKUP14 (io), 63 P1.4/A12/WKUP14 (io), 64 P1.3/A11/WKUP14 (io)

## ST92163R4T1L
designator U?
8/16-Bit MCU with 20k ROM, 2k RAM, Full-Speed USB with 16 Endpoints, I²C, SCI and MFT, 64-Pin TQFP, Low Voltage Mode; Published: 26-May-2004; LatestRevisionDate: 13-Apr-2006; LatestRevisionNote: IPC-7351 Footprint Added.; DatasheetVersion: rev2.4, Jan-2002; PackageVersion: rev2.4, Jan-2002; PackageReference: TQFP64-0.8; Publisher: Altium Limited; PackageDescription: 64-Pin Thin Quad Flat Pack 0.8 mm Pitch; ComponentLink1Description: Manufacturer Link; ComponentLink1URL: http://www.st.com/; ComponentLink2Description: Datasheet; ComponentLink2URL: http://www.st.com/stonline/products/literature/ds/5521/st92163r4.pdf
footprint TQFP64-0.8_N (Thin QFP, 64-Leads, Body 14x14mm, Pitch 0.8mm, IPC Medium Density)
footprint TQFP64-0.8_L (Thin QFP, 64-Leads, Body 14x14mm, Pitch 0.8mm, IPC High Density)
footprint TQFP64-0.8_M (Thin QFP, 64-Leads, Body 14x14mm, Pitch 0.8mm, IPC Low Density)
3D model ST92163-TQFP64-0_8 (64-Pin Thin Quad Flat Pack 0.8 mm Pitch)
pins: 1 P1.2/A10/WKUP14 (io), 2 P1.1/A9/WKUP14 (io), 3 P1.0/A8/WKUP14 (io), 4 P0.7/A7/D7 (io), 5 P0.6/A6/D6 (io), 6 P0.5/A5/D5 (io), 7 P0.4/A4/D4 (io), 8 P0.3/A3/D3 (io), 9 P0.2/A2/D2 (io), 10 P0.1/A1/D1 (io), 11 P0.0/A0/D0 (io), 12 P6.7/AIN5 (io), 13 P6.6/AIN4 (io), 14 P6.5/AIN3/USBSOF (io), 15 P6.4/AIN2/USBSOF (io), 16 P6.3/AIN1/WKUP13/XTOUT (io), 17 AVDD (power), 18 P6.2/INTCLK/AIN0/WKUP12 (io), 19 P6.1/INT6/EXTRG/SCL/WKUP11 (io), 20 P6.0/INT5/SDA/WKUP10 (io), 21 VDD (power), 22 OSCIN (in), 23 VSS (power), 24 OSCOUT (out), 25 P5.7/NMI/WDOUT (io), 26 P5.6/TOUTB/WKUP9 (io), 27 P5.5/INT0/WDIN/R/~{W} (io), 28 P5.4/WKUP8/USBOE (io), 29 P5.3/INT2/TOUTA (io), 30 P5.2/INT3 (io), 31 P5.1/INT4/TINB (io), 32 NC, 33 NC, 34 P5.0/INT1/TINA (io), 35 ~{RESET} (in), 36 VPP (power), 37 P3.7/INT7/SDS (io), 38 P3.6/INT7/~{AS} (io), 39 P3.5/INT7/SIN (io), 40 P3.4/INT7/DCD (io), 41 P3.3/INT7/RXCLK (io), 42 P3.2/INT7/TXCLK/CLKOUT (io), 43 P3.1/INT7/RTS (io), 44 P3.0/INT7/SOUT (io), 45 ~{DS} (out), 46 USBGND (power), 47 USBVCC (power), 48 NC, 49 NC, 50 USBDP0 (io), 51 USBDM0 (io), 52 P4.3//~{BACK} (io), 53 P4.2 (io), 54 P4.1/~{WAIT} (io), 55 P4.0/~{BREQ} (io), 56 VDD (power), 57 VSS (power), 58 NC, 59 NC, 60 P1.7/A15/WKUP14 (io), 61 P1.6/A14/WKUP14 (io), 62 P1.5/A13/WKUP14 (io), 63 P1.4/A12/WKUP14 (io), 64 P1.3/A11/WKUP14 (io)

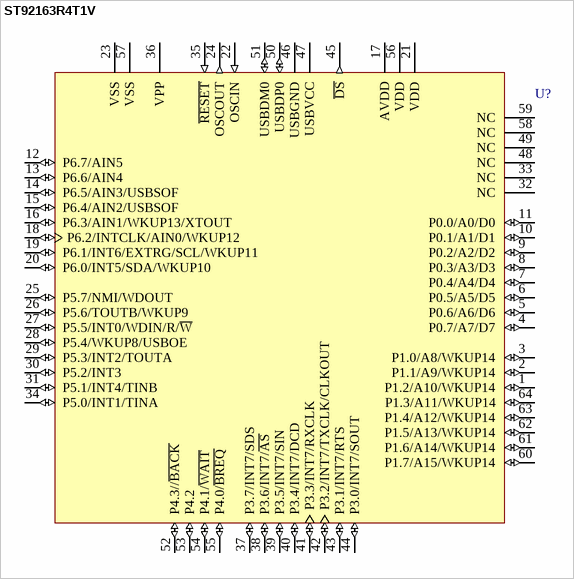
[diagram p167: symbol ST92163R4T1V]

## ST92163R4T1V
designator U?
8/16-Bit MCU with 20k ROM, 2k RAM, Full-Speed USB with 16 Endpoints, I²C, SCI and MFT, 64-Pin TQFP, Low Voltage Mode; Published: 26-May-2004; LatestRevisionDate: 13-Apr-2006; LatestRevisionNote: IPC-7351 Footprint Added.; DatasheetVersion: rev2.4, Jan-2002; PackageVersion: rev2.4, Jan-2002; PackageReference: TQFP64-0.8; Publisher: Altium Limited; PackageDescription: 64-Pin Thin Quad Flat Pack 0.8 mm Pitch; ComponentLink1Description: Manufacturer Link; ComponentLink1URL: http://www.st.com/; ComponentLink2Description: Datasheet; ComponentLink2URL: http://www.st.com/stonline/products/literature/ds/5521/st92163r4.pdf
footprint TQFP64-0.8_N (Thin QFP, 64-Leads, Body 14x14mm, Pitch 0.8mm, IPC Medium Density)
footprint TQFP64-0.8_L (Thin QFP, 64-Leads, Body 14x14mm, Pitch 0.8mm, IPC High Density)
footprint TQFP64-0.8_M (Thin QFP, 64-Leads, Body 14x14mm, Pitch 0.8mm, IPC Low Density)
3D model ST92163-TQFP64-0_8 (64-Pin Thin Quad Flat Pack 0.8 mm Pitch)
pins: 1 P1.2/A10/WKUP14 (io), 2 P1.1/A9/WKUP14 (io), 3 P1.0/A8/WKUP14 (io), 4 P0.7/A7/D7 (io), 5 P0.6/A6/D6 (io), 6 P0.5/A5/D5 (io), 7 P0.4/A4/D4 (io), 8 P0.3/A3/D3 (io), 9 P0.2/A2/D2 (io), 10 P0.1/A1/D1 (io), 11 P0.0/A0/D0 (io), 12 P6.7/AIN5 (io), 13 P6.6/AIN4 (io), 14 P6.5/AIN3/USBSOF (io), 15 P6.4/AIN2/USBSOF (io), 16 P6.3/AIN1/WKUP13/XTOUT (io), 17 AVDD (power), 18 P6.2/INTCLK/AIN0/WKUP12 (io), 19 P6.1/INT6/EXTRG/SCL/WKUP11 (io), 20 P6.0/INT5/SDA/WKUP10 (io), 21 VDD (power), 22 OSCIN (in), 23 VSS (power), 24 OSCOUT (out), 25 P5.7/NMI/WDOUT (io), 26 P5.6/TOUTB/WKUP9 (io), 27 P5.5/INT0/WDIN/R/~{W} (io), 28 P5.4/WKUP8/USBOE (io), 29 P5.3/INT2/TOUTA (io), 30 P5.2/INT3 (io), 31 P5.1/INT4/TINB (io), 32 NC, 33 NC, 34 P5.0/INT1/TINA (io), 35 ~{RESET} (in), 36 VPP (power), 37 P3.7/INT7/SDS (io), 38 P3.6/INT7/~{AS} (io), 39 P3.5/INT7/SIN (io), 40 P3.4/INT7/DCD (io), 41 P3.3/INT7/RXCLK (io), 42 P3.2/INT7/TXCLK/CLKOUT (io), 43 P3.1/INT7/RTS (io), 44 P3.0/INT7/SOUT (io), 45 ~{DS} (out), 46 USBGND (power), 47 USBVCC (power), 48 NC, 49 NC, 50 USBDP0 (io), 51 USBDM0 (io), 52 P4.3//~{BACK} (io), 53 P4.2 (io), 54 P4.1/~{WAIT} (io), 55 P4.0/~{BREQ} (io), 56 VDD (power), 57 VSS (power), 58 NC, 59 NC, 60 P1.7/A15/WKUP14 (io), 61 P1.6/A14/WKUP14 (io), 62 P1.5/A13/WKUP14 (io), 63 P1.4/A12/WKUP14 (io), 64 P1.3/A11/WKUP14 (io)